# EAGLE library part WE-RJ45_LAN_1000_BASET_STD (library Wuerth_Elektronik_eiSos_Version_6-12)
WE-RJ45 LAN Transformer 1000 BaseT, STD - RJ45 connector with integrated transformer common mode choke - 350 µH min.OCL with 8 mA bias - Complies with IEEE 802.3 - Extended temperature range from 0°C to +70°C available -- ADSL Modem -- Embedded PC -- LAN network applications -- Hub, Router, Switches
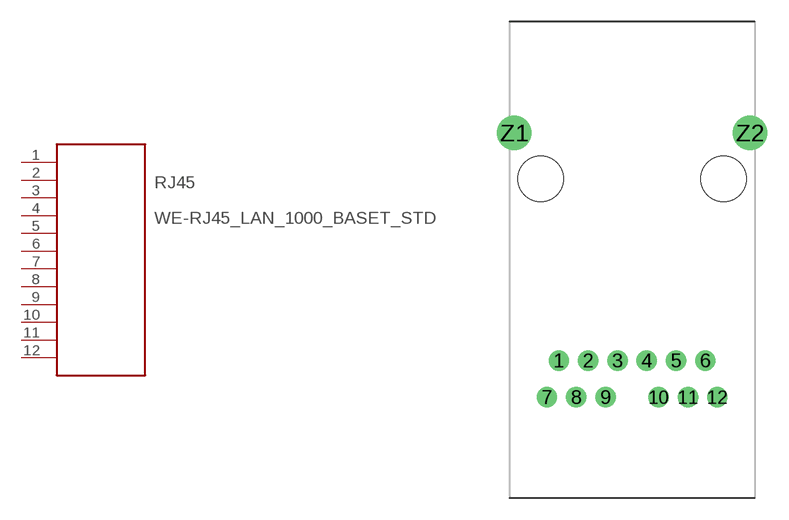
[diagram p119: symbol with the pads of WE-RJ45_LAN_1000_BASET_7499111007; footprint WE-RJ45_LAN_1000_BASET_7499111007]

Designator prefix RJ45

## WE-RJ45_LAN_1000_BASET_STD_7499111007  [WE-RJ45_LAN_1000_BASET_7499111007]
1  1  pas
2  2  pas
3  3  pas
4  4  pas
5  5  pas
6  6  pas
7  7  pas
8  8  pas
9  9  pas
10  10  pas
11  11  pas
12  12  pas

## Footprint WE-RJ45_LAN_1000_BASET_7499111007 (pad centres in mm)
WE-RJ45 LED Transformer 1000 BaseT, STD
drill 0.9 round: 1 -5.075,-12.6; 2 -3.045,-12.6; 3 -1.015,-12.6; 4 1.015,-12.6; 5 3.045,-12.6; 6 5.075,-12.6; 7 -5.9,-15.14; 8 -3.87,-15.14; 9 -1.84,-15.14; 10 1.84,-15.14; 11 3.87,-15.14; 12 5.9,-15.14
drill 1.6 round: Z1 -8.175,3.18; Z2 8.175,3.18
hole 3.15 at -6.35,0
hole 3.15 at 6.35,0